# EAGLE library part 18F4620IP (library custom)
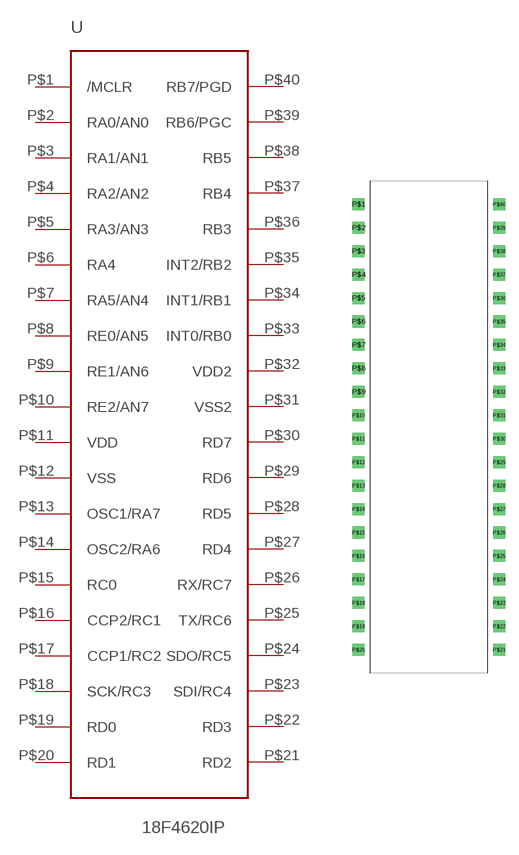
[diagram p0: symbol with the pads of 18F4620IP; footprint 18F4620IP]

Designator prefix -

## 18F4620IP  [18F4620IP]
P$1  /MCLR
P$2  RA0/AN0
P$3  RA1/AN1
P$4  RA2/AN2
P$5  RA3/AN3
P$6  RA4
P$7  RA5/AN4
P$8  RE0/AN5
P$9  RE1/AN6
P$10  RE2/AN7
P$11  VDD
P$12  VSS
P$13  OSC1/RA7
P$14  OSC2/RA6
P$15  RC0
P$16  CCP2/RC1
P$17  CCP1/RC2
P$18  SCK/RC3
P$19  RD0
P$20  RD1
P$21  RD2
P$22  RD3
P$23  SDI/RC4
P$24  SDO/RC5
P$25  TX/RC6
P$26  RX/RC7
P$27  RD4
P$28  RD5
P$29  RD6
P$30  RD7
P$31  VSS2
P$32  VDD2
P$33  INT0/RB0
P$34  INT1/RB1
P$35  INT2/RB2
P$36  RB3
P$37  RB4
P$38  RB5
P$39  RB6/PGC
P$40  RB7/PGD

## Footprint 18F4620IP (pad centres in mm)
drill 0.8 square: P$1 -7.62,21.59; P$2 -7.62,19.05; P$3 -7.62,16.51; P$4 -7.62,13.97; P$5 -7.62,11.43; P$6 -7.62,8.89; P$7 -7.62,6.35; P$8 -7.62,3.81; P$9 -7.62,1.27; P$10 -7.62,-1.27; P$11 -7.62,-3.81; P$12 -7.62,-6.35; P$13 -7.62,-8.89; P$14 -7.62,-11.43; P$15 -7.62,-13.97; P$16 -7.62,-16.51; P$17 -7.62,-19.05; P$18 -7.62,-21.59; P$19 -7.62,-24.13; P$20 -7.62,-26.67; P$21 7.62,-26.67; P$22 7.62,-24.13; P$23 7.62,-21.59; P$24 7.62,-19.05; P$25 7.62,-16.51; P$26 7.62,-13.97; P$27 7.62,-11.43; P$28 7.62,-8.89; P$29 7.62,-6.35; P$30 7.62,-3.81; P$31 7.62,-1.27; P$32 7.62,1.27; P$33 7.62,3.81; P$34 7.62,6.35; P$35 7.62,8.89; P$36 7.62,11.43; P$37 7.62,13.97; P$38 7.62,16.51; P$39 7.62,19.05; P$40 7.62,21.59